# Altium schematic symbol library inductor .SchLib: 1 symbol
Pins are listed as number, name and electrical type; pins without a type are passive.

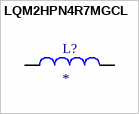
[diagram p0: symbol LQM2HPN4R7MGCL]

## LQM2HPN4R7MGCL
designator L?
Inductor with Inductance: 4.7uH Tol. +/-20%, Package: 1008 (2520); MP: LQM2HPN4R7MGCL; MF: Murata Electronics; Availability: Good; Purchase-URL: https://pricing.snapeda.com/search/part/LQM2HPN4R7MGCL/?ref=eda; SnapEDA_Link: https://www.snapeda.com/parts/LQM2HPN4R7MGCL/Murata%20Electronics%20North%20America/view-part/1499523/?ref=snap; Price: None; Value: *; Check_prices: https://www.snapeda.com/parts/LQM2HPN4R7MGCL/Murata%20Electronics%20North%20America/view-part/1499523/?ref=eda; Package: 2520 Murata
footprint INDC2520X100N
pins: 1, 2